# Altium integrated library Samtec-FTSH.IntLib: 1 symbol
Pins are listed as number, name and electrical type; pins without a type are passive.

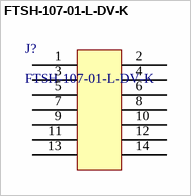
[diagram p0: symbol FTSH-107-01-L-DV-K]

## FTSH-107-01-L-DV-K
designator J?
Samtec FTSH series / 1.27mm pitch 2x7 header with keying / .050" X .050 TERMINAL STRIP / It's for STmicro STDC14 connector on STLinkV3
footprint 1.27_2X7
pins: 1, 2, 3, 4, 5, 6, 7, 8, 9, 10, 11, 12, 13, 14